# Altium schematic symbol library MP2633A.SchLib: 1 symbol
Pins are listed as number, name and electrical type; pins without a type are passive.

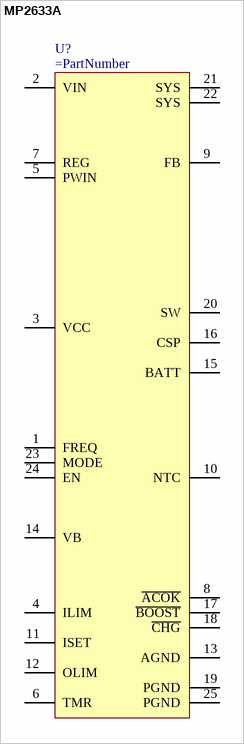
[diagram p0: symbol MP2633A]

## MP2633A
designator U?
pins: 1 FREQ, 2 VIN, 3 VCC, 4 ILIM, 5 PWIN, 6 TMR, 7 REG, 8 ~{ACOK}, 9 FB, 10 NTC, 11 ISET, 12 OLIM, 13 AGND, 14 VB, 15 BATT, 16 CSP, 17 ~{BOOST}, 18 ~{CHG}, 19 PGND, 20 SW, 21 SYS, 22 SYS, 23 MODE, 24 EN, 25 PGND